# EAGLE library part BSS138 (library monome-inc)
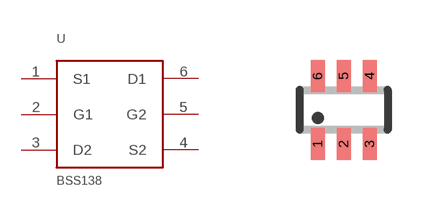
[diagram p1: symbol with the pads of SC70-6L; footprint SC70-6L]

Designator prefix -

## BSS138  [SC70-6L]
1  S1
2  G1
3  D2
4  S2
5  G2
6  D1

## Footprint SC70-6L (pad centres in mm)
SC-70 Package
smd 0.35 x 0.8: 1 -0.65,-0.85; 2 0,-0.85; 3 0.65,-0.85; 4 0.65,0.85; 5 0,0.85; 6 -0.65,0.85